# EAGLE library part PT6212E (library GeekAmmo)
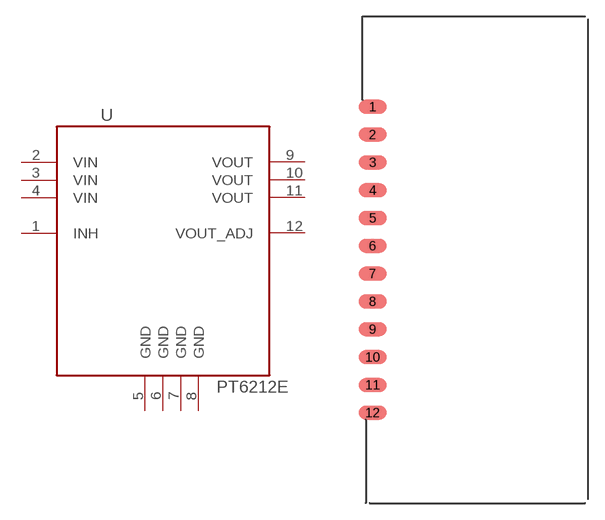
[diagram p8: symbol with the pads of PT621X; footprint PT621X]

Designator prefix -

## PT6212ESIP12  [PT621X]
1  INH
2  VIN  pwr
3  VIN  pwr
4  VIN  pwr
5  GND  pwr
6  GND  pwr
7  GND  pwr
8  GND  pwr
9  VOUT  pwr
10  VOUT  pwr
11  VOUT  pwr
12  VOUT_ADJ  pwr

## Footprint PT621X (pad centres in mm)
RFD22301 Core of RFDuino
smd 2.54 x 1.27: 1 0,0; 2 0,-2.54; 3 0,-5.08; 4 0,-7.62; 5 0,-10.16; 6 0,-12.7; 7 0,-15.24; 8 0,-17.78; 9 0,-20.32; 10 0,-22.86; 11 0,-25.4; 12 0,-27.94